# EAGLE library part SNES_CONNECTOR (library BeagleSNES)
Generic SNES connector
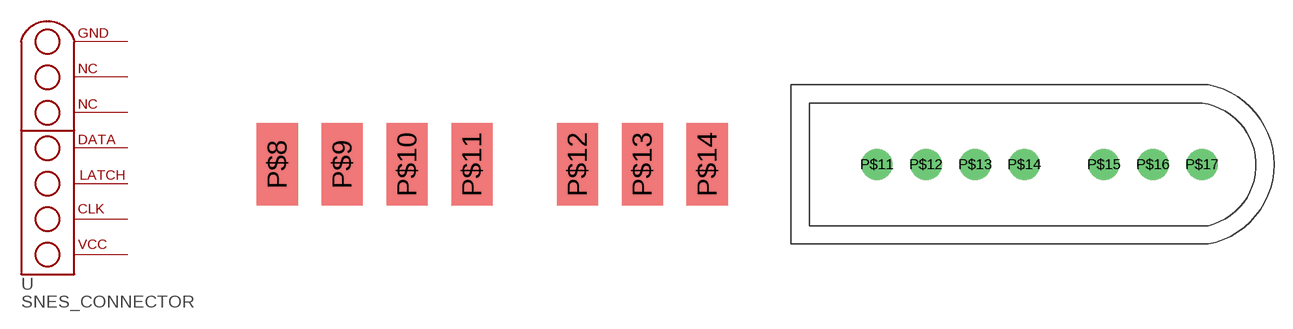
[diagram p0: symbol with the pads of SNES_CONNECTOR_HORIZONTAL; footprints SNES_CONNECTOR_HORIZONTAL, SNES_CONNECTOR_VERTICAL]

Designator prefix -

## SNES_CONNECTORHORIZONTAL  [SNES_CONNECTOR_HORIZONTAL]
P$8  VCC  pwr
P$9  CLK  in
P$10  LATCH  in
P$11  DATA  out
P$12  NC1  nc
P$13  NC2  nc
P$14  GND  pas

## SNES_CONNECTORVERTICAL  [SNES_CONNECTOR_VERTICAL]
P$11  VCC  pwr
P$12  CLK  in
P$13  LATCH  in
P$14  DATA  out
P$15  NC1  nc
P$16  NC2  nc
P$17  GND  pas

## Footprint SNES_CONNECTOR_HORIZONTAL (pad centres in mm)
smd 2.54 x 5.08: P$8 -12,2.54; P$9 -8,2.54; P$10 -4,2.54; P$11 0,2.54; P$12 6.5,2.54; P$13 10.5,2.54; P$14 14.5,2.54

## Footprint SNES_CONNECTOR_VERTICAL (pad centres in mm)
drill 1.25 pad 2.54: P$11 -12,1.5; P$12 -8,1.5; P$13 -4,1.5; P$14 0,1.5; P$15 6.5,1.5; P$16 10.5,1.5; P$17 14.5,1.5